# Altium schematic symbol library Resistors.SchLib: 3 symbols
Pins are listed as number, name and electrical type; pins without a type are passive.

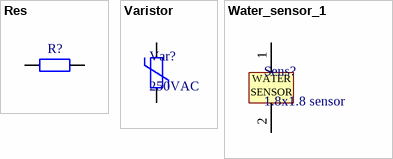
[diagram p0: symbols Res to Water_sensor_1]

## Res
designator R?
Resistor
footprint R0402 (Chip Resistor, Body 1.0x0.5mm, IPC Low Density)
footprint R0805 (Chip Resistor, Body 2.0x1.3mm, IPC Low Density)
footprint R0603 (Chip Resistor, Body 1.6x0.8mm, IPC Low Density)
footprint R1206 (Chip Resistor, Body 3.2x1.6mm, IPC Low Density)
footprint RCL_0207/10
footprint R_2W/15
footprint R_2W/25_RWC
footprint R_1W/12.7
pins: 1, 2

## Varistor
designator Var?, comment 250VAC
HEL5D391K
footprint HEL5D391K_5mm_var
pins: 1, 2

## Water_sensor_1
designator Sens?, comment 1.8x1.8 sensor
footprint water_sensor
pins: 1 (power), 2 (power)
text: WATER; SENSOR